# Altium schematic symbol library Componentes_base.SchLib: 431 symbols (part 7 of 12)
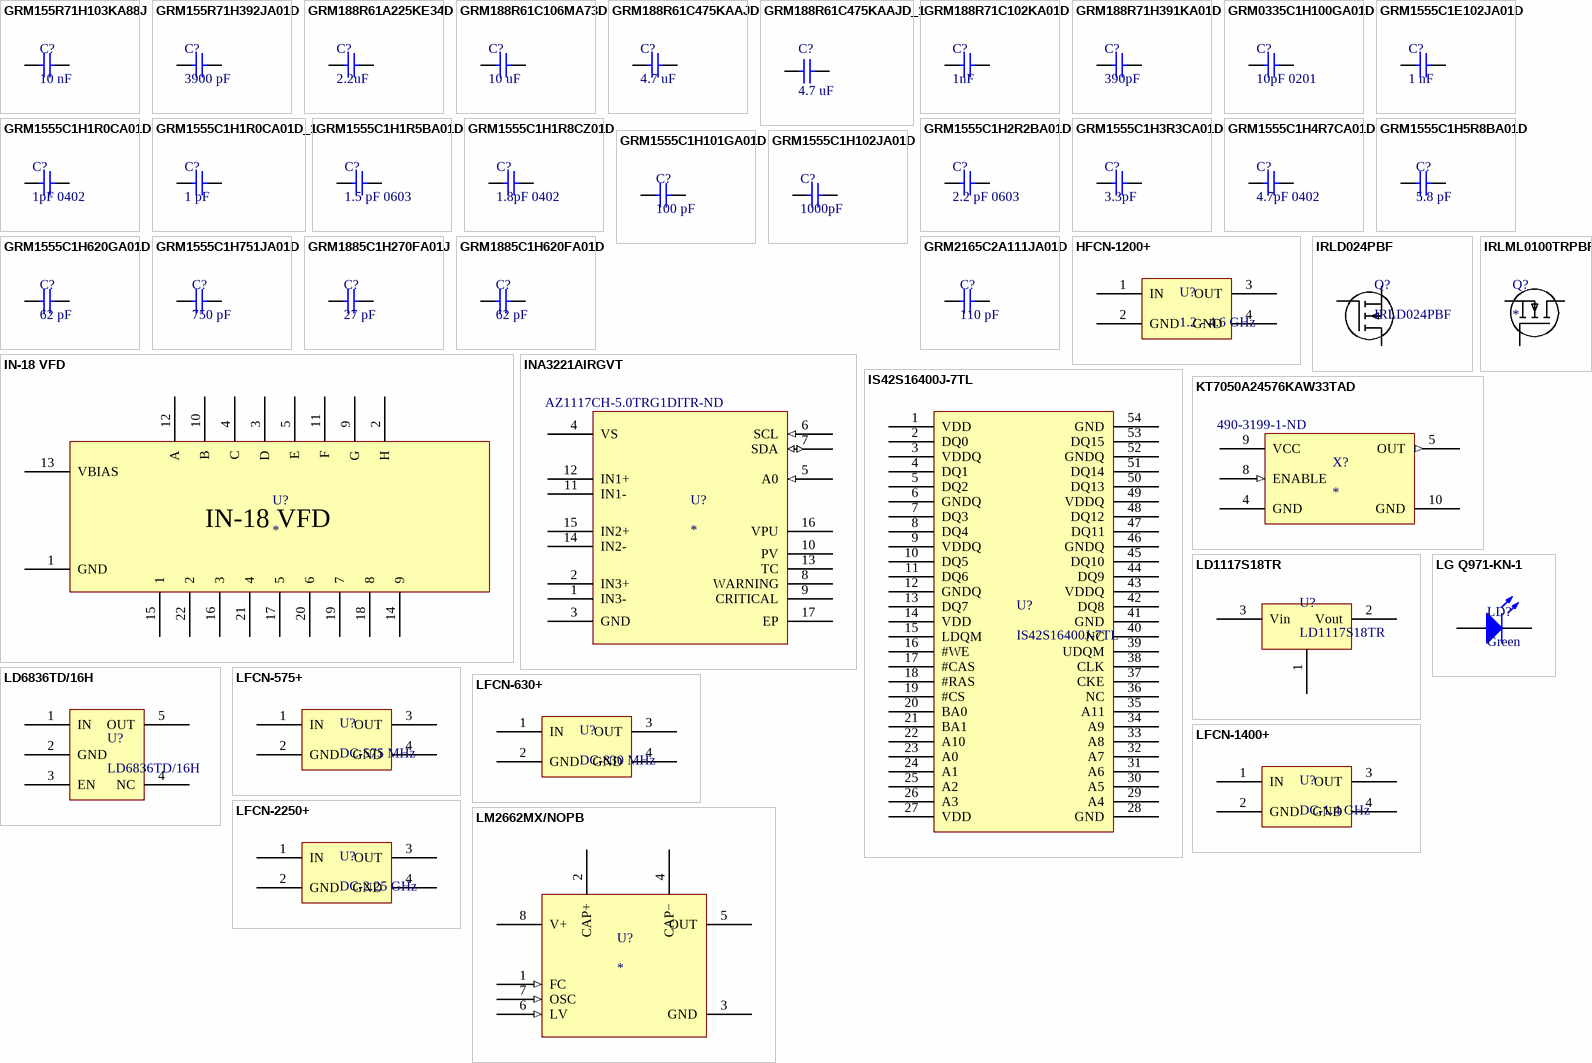
[diagram p20: symbols GRM155R71H103KA88J to LM2662MX/NOPB]

## GRM1555C1H751JA01D
designator C?, comment 750 pF
CAP CER 750PF 50V 5% NP0 0402; Manufacturer: Murata Electronics; Manufacturer Part Number: GRM1555C1H751JA01D; Type: General Purpose MLCC; Case Height: 0.5 mm; Case Length: 1 mm; Dielectric: C0G (NP0); Temperature Coefficient/Code: +/- 30 PPM / C; Temperature Coefficient: C0G, NP0; Supplier 1: Mouser; Supplier Part Number 1: 81-GRM1555C1H751JA1D; RoHS: RoHS Compliant; Category: Multilayer Ceramic Capacitors MLCC - SMD/SMT; Stock 1: 55516; Pricing 1: 1=0.104, 10=0.069, 100=0.028, 1000=0.019, 2500=0.016, 10000=0.014, 20000=0.013, 50000=0.011, 100000=0.009 (EUR); Capacitance: 750 pF; Operating Temperature Range: - 55 C to + 125 C; Package/Case: 0402 (1005 metric); Packaging: Reel; Product: General Type MLCCs; Series: GRM; Termination Style: SMD/SMT; Tolerance: 5 %; Voltage Rating DC: 50 V; Brand: Murata Electronics; Case Code - in: 0402; Case Code - mm: 1005; Case Width: 0.5 mm; Maximum Operating Temperature: + 125 C; Minimum Operating Temperature: - 55 C; Standard Pack Qty: 10000; RoHS - Mouser: Y; Minimum Order Quantity: 1; Reeling: True; ComponentLink1URL: http://www.mouser.com/ds/2/281/product-234285.pdf; ComponentLink1Description: http://www.mouser.com/ds/2/281/product-234285.pdf; Voltage - Rated: 50V; Mounting Type: Surface Mount, MLCC; Operating Temperature: -55°C ~ 125°C; Applications: General Purpose; Ratings: -; Package / Case: 0402 (1005 Metric); Size / Dimension: 0.039" L x 0.020" W (1.00mm x 0.50mm); Height - Seated (Max): -; Thickness (Max): 0.022" (0.55mm); Lead Spacing: -; Features: -; Lead Style: -; ComponentLink2URL: http://www.murata.com/~/media/webrenewal/support/library/catalog/products/capacitor/mlcc/c02e.ashx; ComponentLink2Description: http://www.murata.com/~/media/webrenewal/support/library/catalog/products/capacitor/mlcc/c02e.ashx; Part Status: Active; Failure Rate: -; ComponentLink3URL: http://search.murata.co.jp/Ceramy/image/img/A01X/G101/ENG/GRM155R61A475MEAA-01.pdf; ComponentLink3Description: http://search.murata.co.jp/Ceramy/image/img/A01X/G101/ENG/GRM155R61A475MEAA-01.pdf
footprint CAPC1005X05L (Chip Capacitor, 2-Leads, Body 1,00x0,50mm, IPC High Density)
pins: 1, 2

## GRM1885C1H270FA01J
designator C?, comment 27 pF
Multilayer Ceramic Capacitors MLCC - SMD/SMT 0603 27pF 50volts C0G 1%; Manufacturer: Murata Electronics; Manufacturer Part Number: GRM1885C1H270FA01J; Type: General Purpose MLCC; Voltage Rating DC: 50 V; Dielectric: C0G (NP0); Voltage - Rated: 50V; Temperature Coefficient: C0G, NP0; Supplier 1: Mouser; RoHS: RoHS Compliant; Category: Multilayer Ceramic Capacitors MLCC - SMD/SMT; Stock 1: 23177; Pricing 1: 1=0.136, 10=0.058, 100=0.034, 1000=0.028, 2500=0.021, 10000=0.020, 20000=0.018, 50000=0.017, 100000=0.014 (EUR); Capacitance: 27 pF; Height: 0.8 mm; Length: 1.6 mm; Package/Case: 0603 (1608 metric); Packaging: Reel; Product: General Type MLCCs; Series: GRM; Termination Style: SMD/SMT; Tolerance: 1 %; Width: 0.8 mm; Brand: Murata Electronics; Case Code - in: 0603; Case Code - mm: 1608; Maximum Operating Temperature: + 125 C; Minimum Operating Temperature: - 55 C; Product Category: Low & Medium Capacitance SMD Ceramic Chip Capacitors; Standard Pack Qty: 10000; RoHS - Mouser: Y; Minimum Order Quantity: 1; Reeling: True; ComponentLink1URL: http://www.mouser.com/ds/2/281/c02e-2905.pdf; ComponentLink1Description: http://www.mouser.com/ds/2/281/c02e-2905.pdf; Supplier 2: Digi-Key; Stock 2: 29728; Pricing 2: 1=0.14, 10=0.099, 50=0.057, 100=0.047, 250=0.0396, 500=0.03316, 1000=0.02723, 5000=0.02302 (EUR); Mounting Type: Surface Mount, MLCC; Operating Temperature: -55°C ~ 125°C; Applications: General Purpose; Ratings: -; Package / Case: 0603 (1608 Metric); Size / Dimension: 0.063" L x 0.031" W (1.60mm x 0.80mm); Height - Seated (Max): -; Thickness (Max): 0.035" (0.90mm); Lead Spacing: -; Features: -; Lead Style: -; ComponentLink2URL: http://www.murata.com/~/media/webrenewal/support/library/catalog/products/capacitor/mlcc/c02e.ashx; ComponentLink2Description: http://www.murata.com/~/media/webrenewal/support/library/catalog/products/capacitor/mlcc/c02e.ashx; Supplier Part Number 1: 81-GRM185C1H270FA01J; Supplier Part Number 2: 490-10712-1-ND
footprint CAPC1608X10L (Chip Capacitor, 2-Leads, Body 1,60x0,80mm, IPC High Density)
pins: 1, 2

## GRM1885C1H620FA01D
designator C?, comment 62 pF
Multilayer Ceramic Capacitors MLCC - SMD/SMT 0603 62pF 50volts C0G 1%; Manufacturer: Murata Electronics; Manufacturer Part Number: GRM1885C1H620FA01D; Type: General Purpose MLCC; Voltage Rating DC: 50 V; Dielectric: C0G (NP0); Supplier 1: Mouser; RoHS: RoHS Compliant; Category: Multilayer Ceramic Capacitors MLCC - SMD/SMT; Stock 1: 13135; Pricing 1: 1=0.118, 10=0.049, 100=0.029, 1000=0.024, 4000=0.017, 8000=0.016, 24000=0.015, 48000=0.014, 100000=0.012 (EUR); Capacitance: 62 pF; Height: 0.8 mm; Length: 1.6 mm; Package/Case: 0603 (1608 metric); Packaging: Reel; Product: General Type MLCCs; Series: GRM; Termination Style: SMD/SMT; Tolerance: 1 %; Width: 0.8 mm; Brand: Murata Electronics; Case Code - in: 0603; Case Code - mm: 1608; Maximum Operating Temperature: + 125 C; Minimum Operating Temperature: - 55 C; Product Category: Low & Medium Capacitance SMD Ceramic Chip Capacitors; Standard Pack Qty: 4000; RoHS - Mouser: Y; Minimum Order Quantity: 1; Reeling: True; ComponentLink1URL: http://www.mouser.com/ds/2/281/c02e-2905.pdf; ComponentLink1Description: http://www.mouser.com/ds/2/281/c02e-2905.pdf; Supplier Part Number 1: 81-GRM185C1H620FA01D
footprint CAPC1608X10L (Chip Capacitor, 2-Leads, Body 1,60x0,80mm, IPC High Density)
pins: 1, 2

## GRM2165C2A111JA01D
designator C?, comment 110 pF
CAP CER 110PF 100V NP0 0805; Manufacturer: Murata Electronics North America; Manufacturer Part Number: GRM2165C2A111JA01D; Tolerance: ±5%; Temperature Coefficient: C0G, NP0; Type: General Purpose MLCC; Brand: Murata Electronics; Dielectric: C0G (NP0); Supplier 1: Digi-Key; RoHS: RoHS Compliant; Category: Capacitors; Stock 1: 9467; Pricing 1: 1=0.15, 10=0.104, 50=0.06, 100=0.0496, 250=0.04176, 500=0.03496, 1000=0.0287 (EUR); Packaging: Cut Tape (CT); Capacitance: 110pF; Voltage - Rated: 100V; Mounting Type: Surface Mount, MLCC; Operating Temperature: -55°C ~ 125°C; Applications: General Purpose; Ratings: -; Package / Case: 0805 (2012 Metric); Size / Dimension: 0.079" L x 0.049" W (2.00mm x 1.25mm); Height - Seated (Max): -; Thickness (Max): 0.028" (0.70mm); Lead Spacing: -; Features: -; Lead Style: -; ComponentLink1URL: http://www.murata.com/~/media/webrenewal/support/library/catalog/products/capacitor/mlcc/c02e.ashx; ComponentLink1Description: http://www.murata.com/~/media/webrenewal/support/library/catalog/products/capacitor/mlcc/c02e.ashx; Supplier 2: Mouser; Stock 2: 10454; Pricing 2: 1=0.154, 10=0.106, 100=0.042, 1000=0.029, 4000=0.023, 8000=0.021, 24000=0.019, 48000=0.015, 100000=0.014 (EUR); Height: 0.6 mm; Length: 2 mm; Package/Case: 0805 (2012 metric); Product: General Type MLCCs; Series: GRM; Termination Style: SMD/SMT; Voltage Rating DC: 100 V; Width: 1.25 mm; Case Code - in: 0805; Case Code - mm: 2012; Maximum Operating Temperature: + 125 C; Minimum Operating Temperature: - 55 C; Standard Pack Qty: 4000; RoHS - Mouser: Y; Minimum Order Quantity: 1; Reeling: True; ComponentLink2URL: http://www.mouser.com/ds/2/281/c02e-2905.pdf; ComponentLink2Description: http://www.mouser.com/ds/2/281/c02e-2905.pdf; Supplier Part Number 1: 490-1600-1-ND; Supplier Part Number 2: 81-GRM2165C2A111JA1D
footprint CAPC2012X08L (Chip Capacitor, 2-Leads, Body 2,00x1,25mm, IPC High Density)
pins: 1, 2

## HFCN-1200+
designator U?, comment 1.2 - 4.6 GHz
Minicircuits integrated highpass filter 1220-4600 MHz; Manufacturer Part Number: HFCN-1200+; Manufacturer: Minicircuits; Pricing 1: 20=1.89, 50=1.61 (EUR); Supplier 1: Minicircuits; Supplier Part Number 1: HFCN-1200+
footprint FV1206 (Minicircuits Filter 2-Leads, Body 3,20x1,60mm, IPC High Density)
pins: 1 IN, 2 GND (power), 3 OUT, 4 GND (power)

## IN-18 VFD
designator U?
footprint IV-18 VFD
pins: 1 GND, 2 H, 3 D, 4 C, 5 E, 9 G, 10 B, 11 F, 12 A, 13 VBIAS, 14 9, 15 1, 16 3, 17 5, 18 8, 19 7, 20 6, 21 4, 22 2

## INA3221AIRGVT
designator U?  Supplier Part Number 3: AZ1117CH-5.0TRG1DITR-ND
Current Sense Amplifiers Triple Channel Shunt & Bus Vltg Monitor; Manufacturer: Texas Instruments; Manufacturer Part Number: INA3221AIRGVT; Topology: Current Shunt Feedback; CMRR - Common Mode Rejection Ratio: 110 dB; Gain Error: 0.1 %; Gain V/V: 1 V/V; GBP - Gain Bandwidth Product: 7 kHz; Single Supply Voltage: 2.7 V to 5.5 V; Supply Current per Channel: 350 uA; Supply Voltage - Max: 5.5 V; Supply Voltage - Min: 2.7 V; Vcm - Common Mode Voltage: 0 V to 26 V; Vos - Input Offset Voltage: 80 uV; Function: Current/Voltage Monitor; Sensing Method: High-Side; Accuracy: ±0.1%; Voltage - Input: 0 V ~ 26 V; Regulator Topology: Positive Fixed; Voltage - Output: 5V; Voltage - Dropout (Typical): 1.2V @ 800mA; Number of Regulators: 1; Current - Limit (Min): 1A; Supplier 1: Mouser; Supplier Part Number 1: 595-INA3221AIRGVT; RoHS: RoHS Compliant; Category: Current Sense Amplifiers; Stock 1: 849; Pricing 1: 1=4.69, 10=4.18, 25=3.76, 50=3.60, 100=3.43, 250=3.10, 500=2.78, 750=2.51, 1000=2.24 (EUR); Amplifier Type: Current Sense; Package/Case: VQFN-16; Packaging: Reel; Product: Operational Amplifiers; Series: INA3221; Brand: Texas Instruments; Mounting Style: SMD/SMT; Maximum Operating Temperature: + 125 C; Minimum Operating Temperature: - 40 C; Product Category: Amplifiers - Current Sensing; Standard Pack Qty: 250; RoHS - Mouser: Y; Minimum Order Quantity: 1; Reeling: True; ComponentLink1URL: http://www.mouser.com/ds/2/405/ina3221-452933.pdf; ComponentLink1Description: http://www.mouser.com/ds/2/405/ina3221-452933.pdf; Supplier 2: Digi-Key; Supplier Part Number 2: 296-30459-1-ND; Stock 2: 1056; Pricing 2: 1=4.9, 10=4.392, 25=3.95, 100=3.5925 (EUR); Current - Output: -; Operating Temperature: -40°C ~ 125°C; Mounting Type: Surface Mount; Package / Case: 16-VQFN Exposed Pad; Supplier Device Package: 16-VQFN (4x4); ComponentLink2URL: http://www.ti.com/lit/ds/symlink/ina3221.pdf; ComponentLink2Description: http://www.ti.com/lit/ds/symlink/ina3221.pdf; Supplier 3: Digi-Key; Stock 3: 12000; Pricing 3: 4000=0.07826, 8000=0.07391, 12000=0.06739, 28000=0.06304, 100000=0.05565 (EUR); Part Status: Active; ComponentLink3URL: http://www.diodes.com/_files/datasheets/AZ1117C.pdf; ComponentLink3Description: http://www.diodes.com/_files/datasheets/AZ1117C.pdf
footprint QFN65P400X400X100_HS-17N (QFN, 16-Leads, Body 4,00x4,00mm, Pitch 0,65mm, Thermal Pad 2,10x2,10mm, IPC Medium Density)
pins: 1 IN3-, 2 IN3+, 3 GND (power), 4 VS (power), 5 A0 (in), 6 SCL (in), 7 SDA (io), 8 WARNING (oc), 9 CRITICAL (oc), 10 PV (oc), 11 IN1-, 12 IN1+, 13 TC (oc), 14 IN2-, 15 IN2+, 16 VPU, 17 EP (power)

## IRLD024PBF
designator Q?
VISHAY         IRLD024PBF.             MOSFET Transistor, N Channel, 2.5 A, 60 V, 100 mohm, 5 V, 2 V; Continuous Drain Current Id: 2.5A; Drain Source Voltage Vds: 60V; On Resistance Rds(on): 0.1ohm; Rds(on) Test Voltage Vgs: 5V; Threshold Voltage Vgs: 2V; Power Dissipation Pd: 1W; Transistor Case Style: DIP; No. of Pins: 4Pins; SVHC: To Be Advised; Supplier 1: Digi-Key; Manufacturer: Vishay; Manufacturer Part Number: IRLD024PBF; Stock 1: 1224; Pricing 1: 1=1.23, 10=1.087, 100=0.8594, 500=0.6665, 1000=0.5262 (USD); Transistor Polarity: N Channel; Operating Temperature Max: 175°C; MSL: -; Supplier Part Number 1: IRLD024PBF-ND
footprint IRLD024PBF
pins: 1 D, 2 G, 3 S

## IRLML0100TRPBF
designator Q?
MOSFET N-CH 100V 1.6A SOT-23-3; Manufacturer: Infineon Technologies; Manufacturer Part Number: IRLML0100TRPBF; FET Type: MOSFET N-Channel, Metal Oxide; FET Feature: Standard; Current - Continuous Drain (Id) @ 25°C: 1.6A (Ta); Rds On (Max) @ Id, Vgs: 220 mOhm @ 1.6A, 10V; Vgs(th) (Max) @ Id: 2.5V @ 25µA; Gate Charge (Qg) @ Vgs: 2.5nC @ 4.5V; Input Capacitance (Ciss) @ Vds: 290pF @ 25V; Power - Max: 1.3W; Supplier 1: Digi-Key; RoHS: RoHS Compliant; Category: Discrete Semiconductor Products; Stock 1: 14880; Pricing 1: 1=0.48, 10=0.392, 100=0.2674, 500=0.2005, 1000=0.15037 (EUR); Packaging: Cut Tape (CT); Part Status: Active; Drain to Source Voltage (Vdss): 100V; Operating Temperature: -55°C ~ 150°C (TJ); Mounting Type: Surface Mount; Package / Case: TO-236-3, SC-59, SOT-23-3; Supplier Device Package: Micro3™/SOT-23; ComponentLink1URL: http://www.irf.com/product-info/datasheets/data/irLML0100pbf.pdf; ComponentLink1Description: http://www.irf.com/product-info/datasheets/data/irLML0100pbf.pdf; Supplier Part Number 1: IRLML0100TRPBFCT-ND
footprint SOT23-GDS
pins: D, G, S

## IS42S16400J-7TL
designator U?
IC SDRAM 64MBIT 143MHZ 54TSOP; Manufacturer: ISSI, Integrated Silicon Solution Inc; Memory Format: DRAM; Memory Type: Volatile; Memory Size: 64Mb (4M x 16); Interface: Parallel; Voltage - Supply: 3 V ~ 3.6 V; Supplier 1: Digi-Key; Manufacturer Part Number: IS42S16400J-7TL; RoHS: RoHS Compliant; Category: Integrated Circuits (ICs); Stock 1: 6588; Pricing 1: 1=1.64 (EUR); Packaging: Tray; Part Status: Active; Speed: 143MHz; Operating Temperature: 0°C ~ 70°C (TA); Package / Case: 54-TSOP (0.400", 10.16mm Width); Supplier Device Package: 54-TSOP II; ComponentLink1URL: http://www.issi.com/WW/pdf/42-45S16400J.pdf; ComponentLink1Description: http://www.issi.com/WW/pdf/42-45S16400J.pdf; Supplier Part Number 1: 706-1133-ND
footprint TSOP2-54
pins: 1 VDD, 2 DQ0, 3 VDDQ, 4 DQ1, 5 DQ2, 6 GNDQ, 7 DQ3, 8 DQ4, 9 VDDQ, 10 DQ5, 11 DQ6, 12 GNDQ, 13 DQ7, 14 VDD, 15 LDQM, 16 #WE, 17 #CAS, 18 #RAS, 19 #CS, 20 BA0, 21 BA1, 22 A10, 23 A0, 24 A1, 25 A2, 26 A3, 27 VDD, 28 GND, 29 A4, 30 A5, 31 A6, 32 A7, 33 A8, 34 A9, 35 A11, 36 NC, 37 CKE, 38 CLK, 39 UDQM, 40 NC, 41 GND, 42 DQ8, 43 VDDQ, 44 DQ9, 45 DQ10, 46 GNDQ, 47 DQ11, 48 DQ12, 49 VDDQ, 50 DQ13, 51 DQ14, 52 GNDQ, 53 DQ15, 54 GND

## KT7050A24576KAW33TAD
designator X?  Supplier Part Number 3: 490-3199-1-ND
OSC TCXO 24.576MHZ CMOS SMD; Manufacturer: AVX Corp/Kyocera Corp; Manufacturer Part Number: KT7050A24576KAW33TAD; Function: Tri-State (Output Enable); Voltage - Supply: 3.3V; Frequency Stability: ±0.28ppm; Current - Supply (Max): 5mA; Load Capacitance: 15 pF; Supply Voltage: 3.3 V; Brand: AVX; Tolerance: ±0.25pF; Voltage - Rated: 50V; Temperature Coefficient: C0G, NP0; Supplier 1: Digi-Key; Supplier Part Number 1: 1253-1023-1-ND; RoHS: RoHS Compliant; Category: Crystals and Oscillators; Stock 1: 1911; Pricing 1: 1=20.85, 10=19.402, 50=19.0056, 100=18.4777, 500=18.08174 (EUR); Packaging: Cut Tape (CT); Type: TCXO; Frequency: 24.576MHz; Output: CMOS; Operating Temperature: -40°C ~ 85°C; Ratings: -; Mounting Type: Surface Mount; Size / Dimension: 0.276" L x 0.197" W (7.00mm x 5.00mm); Height: 0.067" (1.70mm); Package / Case: 8-SMD, No Lead (QFN, LCC); Current - Supply (Disable) (Max): -; ComponentLink1URL: http://www.kyocera-crystal.jp/eng/wp-content/uploads/2014/09/kt7050_e.pdf; ComponentLink1Description: http://www.kyocera-crystal.jp/eng/wp-content/uploads/2014/09/kt7050_e.pdf; Supplier 2: Mouser; Supplier Part Number 2: 581-KT7050A24KAW33T; Stock 2: 111; Pricing 2: 1=38.93, 10=35.68, 100=24.00, 500=20.76, 1000=18.17 (EUR); Dimensions: 5 mm W x 7 mm L x 1.7 mm H; Package/Case: 7 mm x 5 mm; Product: TCXO; Series: KT7050; Termination Style: SMD/SMT; Maximum Operating Temperature: + 85 C; Minimum Operating Temperature: - 40 C; Output Format: CMOS; Standard Pack Qty: 1000; RoHS - Mouser: Y; Minimum Order Quantity: 1; Reeling: True; ComponentLink2URL: http://www.mouser.com/ds/2/40/kt7050_e-5259.pdf; ComponentLink2Description: http://www.mouser.com/ds/2/40/kt7050_e-5259.pdf; Supplier 3: Digi-Key; Stock 3: 713278; Pricing 3: 1=0.11, 10=0.021, 100=0.0091, 500=0.00652, 1000=0.00513, 2500=0.00466, 5000=0.00429 (EUR); Part Status: Active; Features: -; Applications: General Purpose; Height - Seated (Max): -; Thickness (Max): 0.022" (0.55mm); Lead Spacing: -; Lead Style: -; ComponentLink3URL: http://www.murata.com/~/media/webrenewal/support/library/catalog/products/capacitor/mlcc/c02e.ashx; ComponentLink3Description: http://www.murata.com/~/media/webrenewal/support/library/catalog/products/capacitor/mlcc/c02e.ashx
footprint KT7050A (Kyocera/AVX stratum 3 TCXO 10 leads 7x5)
pins: 4 GND (power), 5 OUT (out), 8 ENABLE (in), 9 VCC (power), 10 GND (power)

## LD1117S18TR
designator U?
IC REG LDO 1.8V 0.8A SOT223; Manufacturer: STMicroelectronics; Output Configuration: Positive; Output Type: Fixed; Voltage - Input (Max): 15V; Voltage Dropout (Max): 1.2V @ 800mA; Current - Output: 800mA; Current - Supply: 10mA; PSRR: 75dB (120Hz); Protection Features: Over Current, Over Temperature; Supplier 1: Digi-Key; Manufacturer Part Number: LD1117S18TR; RoHS: RoHS Compliant; Category: Integrated Circuits (ICs); Stock 1: 2476; Pricing 1: 1=0.42, 10=0.357, 100=0.2669, 500=0.20966, 1000=0.162 (EUR); Packaging: Cut Tape (CT); Part Status: Active; Voltage - Output (Min/Fixed): 1.8V; Voltage - Output (Max): -; Control Features: -; Operating Temperature: 0°C ~ 125°C; Mounting Type: Surface Mount; Package / Case: TO-261-4, TO-261AA; Supplier Device Package: SOT-223; ComponentLink1URL: http://www.st.com/content/ccc/resource/technical/document/datasheet/99/3b/7d/91/91/51/4b/be/CD00000544.pdf/files/CD00000544.pdf/jcr:content/translations/en.CD00000544.pdf; ComponentLink1Description: http://www.st.com/content/ccc/resource/technical/document/datasheet/99/3b/7d/91/91/51/4b/be/CD00000544.pdf/files/CD00000544.pdf/jcr:content/translations/en.CD00000544.pdf; Supplier Part Number 1: 497-7308-1-ND
footprint SOT223-123
pins: 1 GND, 2 Vout, 3 Vin

## LD6836TD/16H
designator U?
NEXPERIA - LD6836TD/16H - LDO, 5,5V, 0.09VDO, 0,3A, 1,6V, 5SOT753; Tipo de Salida: Fija; Tensión de Entrada Mín.: 2.3; Tensión de Entrada Máx.: 5.5; Tensión Nominal de Salida Fija: 1.6; Corriente de Salida: 300; Tensión de Caída Vdo: 100; Diseño del Regulador LDO: SOT-753; Núm. de Contactos Macho: 5; Temperatura de Trabajo Mín.: -40; Temperatura de Trabajo Máx.: 85; Encapsulado: Individual; Rango de Producto: 1.6V 300; Nivel de Sensibilidad a la Humedad (MSL): MSL 1 - Ilimitado; Sustancia Extremadamente Preocupante (SVHC): No SVHC (17-Dec-2015); Memory Format: DRAM; Memory Type: Volatile; Memory Size: 64Mb (4M x 16); Speed: 143MHz; Interface: Parallel; Voltage - Supply: 3 V ~ 3.6 V; Supplier 1: Farnell; Manufacturer: NEXPERIA; Manufacturer Part Number: LD6836TD/16H; RoHS: YES; Stock 1: 57; Pricing 1: 1=0,338, 40=0,273, 100=0,223, 300=0,183, 1000=0,16, 3000=0,133, 10000=0,125, 25000=0,115 (EUR); Tensión Mínima de Salida Ajustable: -; Tensión Máxima de Salida Ajustable: -; Estándar de Certificación para Automoción: -; Tensión Nominal de Salida: 1.6; Voltaje de Entrada, Primario: 5.5; ComponentLink1URL: http://www.farnell.com/datasheets/1760785.pdf; ComponentLink1Description: http://www.farnell.com/datasheets/1760785.pdf; ComponentLink2URL: http://www.farnell.com/datasheets/1697991.pdf; ComponentLink2Description: http://www.farnell.com/datasheets/1697991.pdf; ComponentLink3URL: http://www.farnell.com/cad/1721740.zip; ComponentLink3Description: http://www.farnell.com/cad/1721740.zip; Supplier Part Number 1: 2308313RL; Category: Integrated Circuits (ICs); Packaging: Tray; Part Status: Active; Operating Temperature: 0°C ~ 70°C (TA); Package / Case: 54-TSOP (0.400", 10.16mm Width); Supplier Device Package: 54-TSOP II; ComponentLink4URL: http://www.issi.com/WW/pdf/42-45S16400J.pdf; ComponentLink4Description: http://www.issi.com/WW/pdf/42-45S16400J.pdf
footprint SOT-753
pins: 1 IN, 2 GND, 3 EN, 4 NC, 5 OUT

## LFCN-575+
designator U?, comment DC-575 MHz
Minicircuits integrated lowpass filter DC-575 MHz; Manufacturer Part Number: LFCN-575+; Manufacturer: Minicircuits; Pricing 1: 20=2.84, 50=2.56 (EUR); Supplier 1: Minicircuits; Supplier Part Number 1: LFCN-575+
footprint FV1206 (Minicircuits Filter 2-Leads, Body 3,20x1,60mm, IPC High Density)
pins: 1 IN, 2 GND (power), 3 OUT, 4 GND (power)

## LFCN-630+
designator U?, comment DC-830 MHz
Minicircuits integrated lowpass filter DC-830 MHz; Manufacturer Part Number: LFCN-630+; Manufacturer: Minicircuits; Pricing 1: 20=2.84, 50=2.56 (EUR); Supplier 1: Minicircuits; Supplier Part Number 1: LFCN-630+
footprint FV1206 (Minicircuits Filter 2-Leads, Body 3,20x1,60mm, IPC High Density)
pins: 1 IN, 2 GND (power), 3 OUT, 4 GND (power)

## LFCN-1400+
designator U?, comment DC-1.4 GHz
Minicircuits integrated lowpass filter DC-1400 MHz; Manufacturer Part Number: LFCN-1400+; Manufacturer: Minicircuits; Pricing 1: 20=2.84, 50=2.56 (EUR); Supplier 1: Minicircuits; Supplier Part Number 1: LFCN-1400+
footprint FV1206 (Minicircuits Filter 2-Leads, Body 3,20x1,60mm, IPC High Density)
pins: 1 IN, 2 GND (power), 3 OUT, 4 GND (power)

## LFCN-2250+
designator U?, comment DC-2.25 GHz
Minicircuits integrated lowpass filter DC-2250MHz; Manufacturer Part Number: LFCN-2250+; Manufacturer: Minicircuits; Pricing 1: 20=2.84, 50=2.56 (EUR); Supplier 1: Minicircuits; Supplier Part Number 1: LFCN-2250+
footprint FV1206 (Minicircuits Filter 2-Leads, Body 3,20x1,60mm, IPC High Density)
pins: 1 IN, 2 GND (power), 3 OUT, 4 GND (power)

## LG Q971-KN-1
designator LD?, comment Green
LED CHIPLED 570NM GREEN 0603 SMD; Manufacturer: OSRAM Opto Semiconductors; Manufacturer Part Number: LG Q971-KN-1; Forward Current: 20 mA; Forward Voltage: 2.2 V; LED Size: 1.6 mm x 0.8 mm x 0.3 mm; Luminous Intensity: 10 mcd; Viewing Angle: 160 deg; Supplier 1: Mouser; Supplier Part Number 1: 720-LGQ971-KN-1; RoHS: RoHS Compliant; Category: Standard LEDs - SMD; Stock 1: 101520; Pricing 1: 1=0.087, 10=0.059, 25=0.053, 100=0.047, 250=0.041, 500=0.037, 1000=0.035, 2500=0.031, 4000=0.029 (EUR); Illumination Colour: Green; Package/Case: 0603; Packaging: Reel; Series: CHIPLED 0603; Brand: OSRAM Opto Semiconductors; Maximum Operating Temperature: + 85 C; Minimum Operating Temperature: - 40 C; Product Category: Standard LED - Surface Mount; Standard Pack Qty: 16000; Wavelength/Colour Temperature: 570 nm; RoHS - Mouser: Y; Minimum Order Quantity: 1; Reeling: True; ComponentLink1URL: http://www.mouser.com/ds/2/311/LG Q971 - CHIPLED 0603-473269.pdf; ComponentLink1Description: http://www.mouser.com/ds/2/311/LG Q971 - CHIPLED 0603-473269.pdf
footprint LED1608X08L (LED, 2-Leads, Body 1,60x0,80mm, IPC High Density)
pins: 1 A, 2 K

## LM2662MX/NOPB
designator U?
IC REG SWTCHD CAP INV 0.2A 8SOIC; Manufacturer: Texas Instruments; Manufacturer Part Number: LM2662MX/NOPB; Function: Ratiometric; Output Configuration: Positive or Negative; Topology: Charge Pump; Output Type: Fixed; Number of Outputs: 1; Voltage - Input (Min): 1.5V; Voltage - Input (Max): 5.5V; Voltage - Output (Min/Fixed): -Vin, 2Vin, Vin/2; Current - Output: 200mA; Frequency - Switching: 10kHz, 75kHz; Synchronous Rectifier: No; Input Voltage: 1.5 V to 5.5 V; Input Voltage MAX: 5.5 V; Output Current: 200 mA; Output Voltage: - 1.5 V to - 5.5 V; Switching Frequency: 150 kHz; Input Voltage MIN: 1.5 V; Operating Supply Current: 16 mA; Supplier 1: Digi-Key; RoHS: RoHS Compliant; Category: Integrated Circuits (ICs); Stock 1: 12952; Pricing 1: 1=1.92, 10=1.73, 25=1.4984, 50=1.4094, 100=1.3915, 250=1.23988, 500=1.05256, 750=0.94552, 1000=0.75285 (EUR); Packaging: Cut Tape (CT); Voltage - Output (Max): -; Operating Temperature: -40°C ~ 85°C (TA); Mounting Type: Surface Mount; Package / Case: 8-SOIC (0.154", 3.90mm Width); Supplier Device Package: 8-SOIC; ComponentLink1URL: http://www.ti.com/lit/ds/symlink/lm2662.pdf; ComponentLink1Description: http://www.ti.com/lit/ds/symlink/lm2662.pdf; Supplier 2: Mouser; Stock 2: 2584; Pricing 2: 1=1.95, 10=1.76, 25=1.52, 50=1.43, 100=1.41, 250=1.26, 500=1.07, 750=0.959, 1000=0.781, 2500=0.781 (EUR); Operating Temperature Range: - 40 C to + 85 C; Package/Case: SOIC-Narrow-8; Series: LM2662; Type: Inverting, Step Up, Step Down; Width: 3.9 mm; Brand: Texas Instruments; Mounting Style: SMD/SMT; Shutdown: Shutdown; Maximum Operating Temperature: + 85 C; Minimum Operating Temperature: - 40 C; Standard Pack Qty: 2500; Supply Voltage - Min: 1.5 V; RoHS - Mouser: Y; Minimum Order Quantity: 1; Reeling: True; ComponentLink2URL: http://www.mouser.com/ds/2/405/lm2662-443660.pdf; ComponentLink2Description: http://www.mouser.com/ds/2/405/lm2662-443660.pdf; Supplier Part Number 1: LM2662MX/NOPBCT-ND; Supplier Part Number 2: 926-LM2662MX/NOPB
footprint SOIC127P600X175-8L R-PDSO-G8 (SOIC, 8-Leads, Body 4,90x3,90mm, Pitch 1,27mm, IPC High Density)
pins: 1 FC (in), 2 CAP+ (power), 3 GND (power), 4 CAP− (power), 5 OUT (power), 6 LV (in), 7 OSC (in), 8 V+ (power)

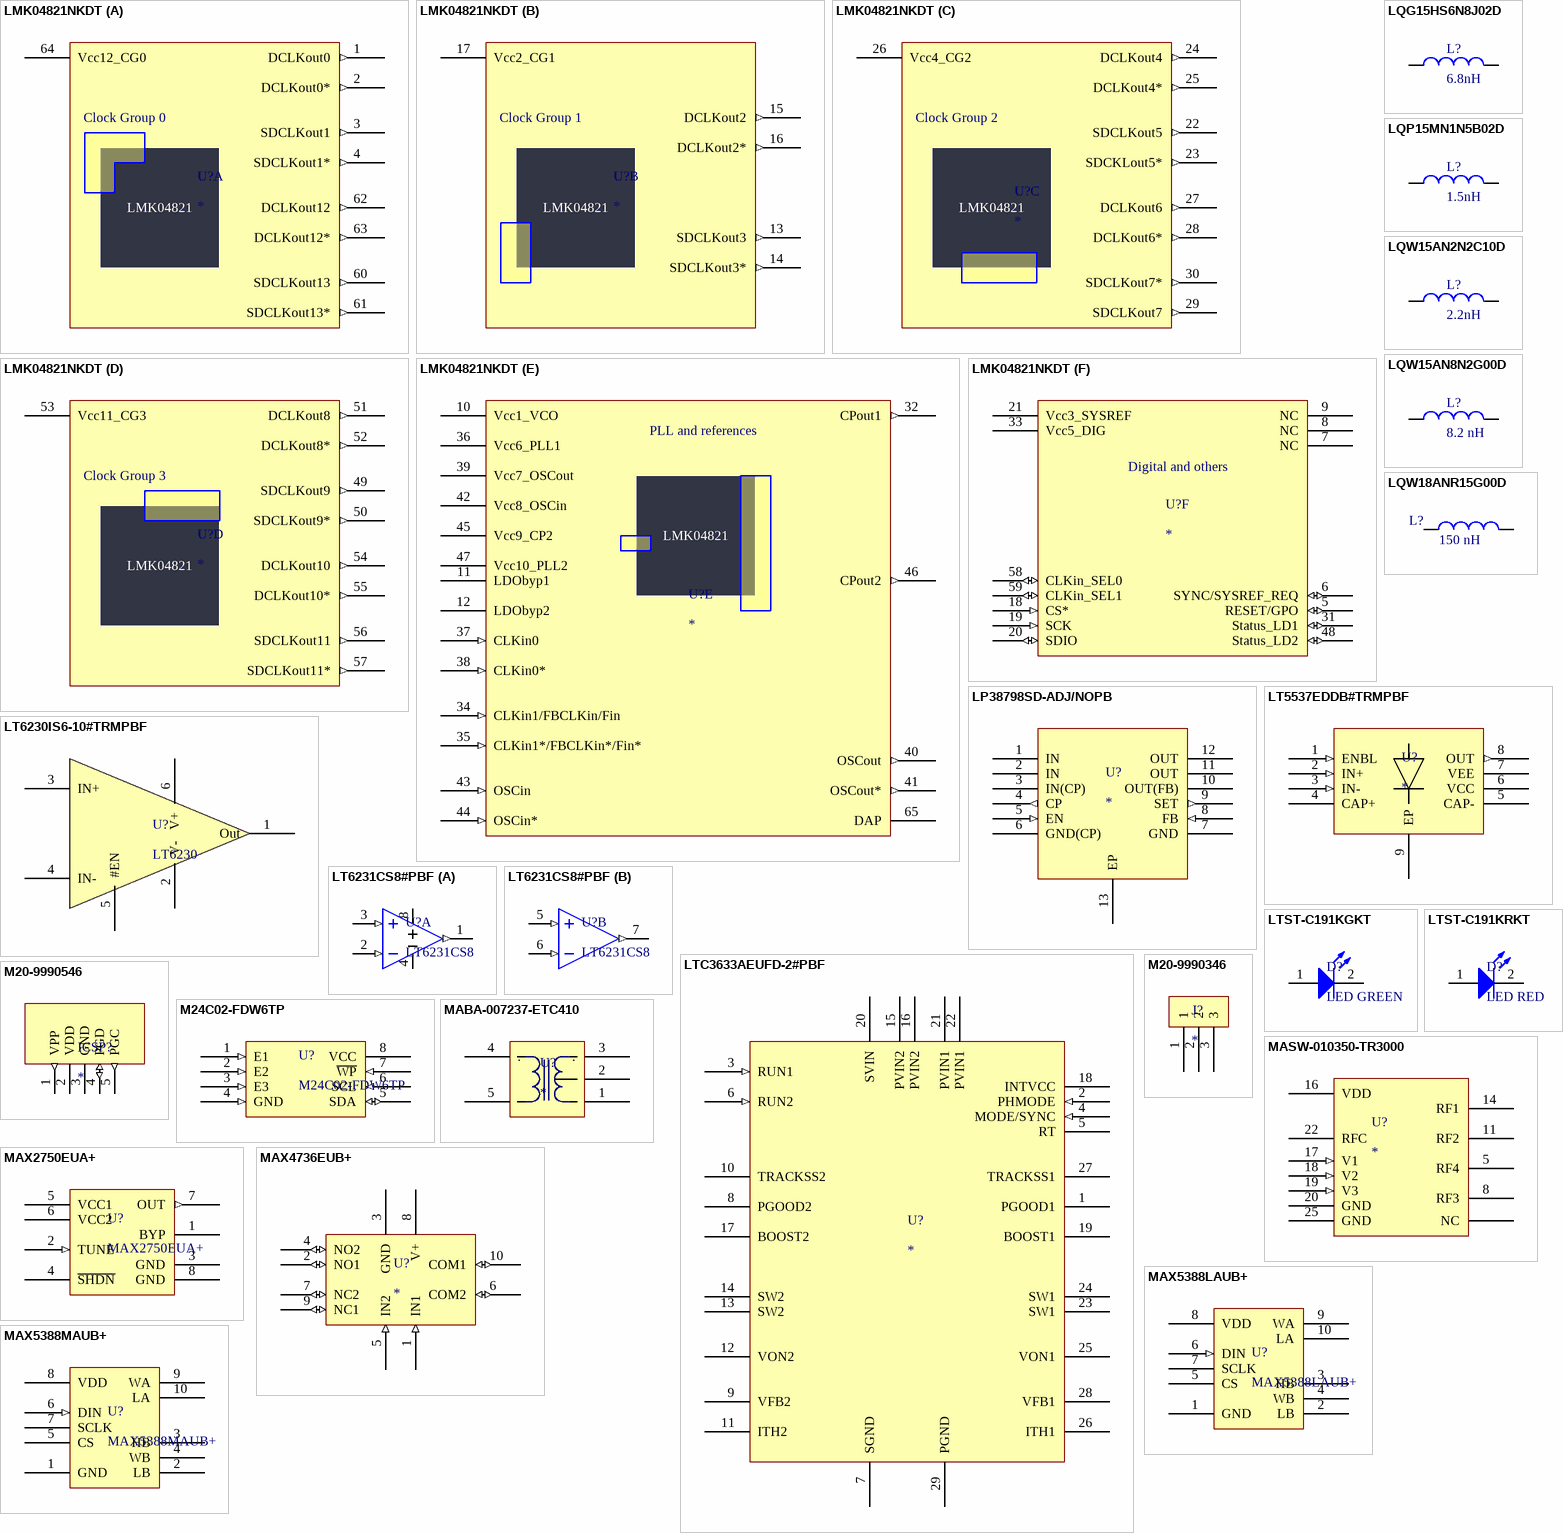
[diagram p7: symbols LMK04821NKDT to MAX5388MAUB+]

## LMK04821NKDT
designator U?
Clock Synthesizer/Jitter Cleaner Ultra Low Jitter Synth&Jitter Cleaner; Manufacturer: Texas Instruments; Manufacturer Part Number: LMK04821NKDT; Product Status: New Product; PLL: Yes; Input: LVCMOS, LVDS, LVPECL; Output: HSDS, LCPECL, LVCMOS, LVDS, LVPECL; Number of Circuits: 1; Ratio - Input:Output: 3:15; Differential - Input:Output: Yes/Yes; Frequency - Max: 1.54GHz; Divider/Multiplier: Yes/No; Voltage - Supply: 3.15 V ~ 3.45 V; Supplier 1: Mouser; Category: Clock Synthesizer/Jitter Cleaner; Stock 1: 0; Pricing 1: 1=20.69, 10=19.13, 25=17.58, 50=17.17, 100=16.34, 250=15.00, 500=14.27, 750=13.76 (EUR); Packaging: Reel; Series: LMK04821; Brand: Texas Instruments; Minimum Order Quantity: 1; Reeling: True; ComponentLink1URL: http://www.ti.com/lit/gpn/lmk04821; ComponentLink1Description: http://www.ti.com/lit/gpn/lmk04821; Supplier 2: Digi-Key; RoHS: RoHS Compliant; Stock 2: 840; Pricing 2: 1=21.01, 10=19.473, 25=17.842, 100=16.6188 (EUR); Type: Jitter Cleaner; Operating Temperature: -40°C ~ 85°C; Mounting Type: Surface Mount; Package / Case: 64-WFQFN Exposed Pad; Supplier Device Package: 64-WQFN (9x9); ComponentLink2URL: http://www.ti.com/lit/ds/symlink/lmk04821.pdf; ComponentLink2Description: http://www.ti.com/lit/ds/symlink/lmk04821.pdf; Supplier Part Number 1: 595-LMK04821NKDT; Supplier Part Number 2: 296-40277-1-ND
footprint QFN50P900X900X80_HS-65L TEXAS WQFN (QFN, 64-Leads, Body 9,00x9,00mm, Pitch 0,50mm, Thermal Pad 7,20x7,20mm, IPC High Density)
part A pins: 1 DCLKout0 (out), 2 DCLKout0* (out), 3 SDCLKout1 (out), 4 SDCLKout1* (out), 60 SDCLKout13 (out), 61 SDCLKout13* (out), 62 DCLKout12 (out), 63 DCLKout12* (out), 64 Vcc12_CG0 (power)
part B pins: 13 SDCLKout3 (out), 14 SDCLKout3* (out), 15 DCLKout2 (out), 16 DCLKout2* (out), 17 Vcc2_CG1 (power)
part C pins: 22 SDCLKout5 (out), 23 SDCKLout5* (out), 24 DCLKout4 (out), 25 DCLKout4* (out), 26 Vcc4_CG2 (power), 27 DCLKout6 (out), 28 DCLKout6* (out), 29 SDCLKout7 (out), 30 SDCLKout7* (out)
part D pins: 49 SDCLKout9 (out), 50 SDCLKout9* (out), 51 DCLKout8 (out), 52 DCLKout8* (out), 53 Vcc11_CG3 (power), 54 DCLKout10 (out), 55 DCLKout10* (out), 56 SDCLKout11 (out), 57 SDCLKout11* (out)
part E pins: 10 Vcc1_VCO (power), 11 LDObyp1, 12 LDObyp2, 32 CPout1 (out), 34 CLKin1/FBCLKin/Fin (in), 35 CLKin1*/FBCLKin*/Fin* (in), 36 Vcc6_PLL1 (power), 37 CLKin0 (in), 38 CLKin0* (in), 39 Vcc7_OSCout (power), 40 OSCout (out), 41 OSCout* (out), 42 Vcc8_OSCin (power), 43 OSCin (in), 44 OSCin* (in), 45 Vcc9_CP2 (power), 46 CPout2 (out), 47 Vcc10_PLL2 (power), 65 DAP (power)
part F pins: 5 RESET/GPO (io), 6 SYNC/SYSREF_REQ (io), 7 NC, 8 NC, 9 NC, 18 CS* (in), 19 SCK (in), 20 SDIO (io), 21 Vcc3_SYSREF (power), 31 Status_LD1 (io), 33 Vcc5_DIG (power), 48 Status_LD2 (io), 58 CLKin_SEL0 (io), 59 CLKin_SEL1 (io)
part A text: Clock Group 0
part B text: Clock Group 1
part C text: Clock Group 2
part D text: Clock Group 3
part E text: PLL and references
part F text: Digital and others

## LP38798SD-ADJ/NOPB
designator U?
IC REG LDO ADJ 0.8A 12WSON; Manufacturer: Texas Instruments; Manufacturer Part Number: LP38798SD-ADJ/NOPB; Input Voltage MAX: 20 V; Number of Outputs: 2 Output; Output Current: 800 mA; Output Type: Adjustable; Dropout Voltage - Max: 420 mV; PSRR / Ripple Rejection - Typ: 110 dB; Development Kit: LP38798EVM; Input Voltage MIN: 3 V; Line Regulation: 0.005 %; Load Regulation: - 0.2 %; Product Status: New Product; Regulator Topology: Positive Adjustable; Voltage - Output: 1.2 V ~ 19.8 V; Current - Output: 800mA; Voltage - Dropout (Typical): 0.2V @ 800mA; Number of Regulators: 1; Voltage - Input: 3 V ~ 20 V; Supplier 1: Mouser; Supplier Part Number 1: 595-LP38798SD-ADJNPB; RoHS: RoHS Compliant; Category: LDO Voltage Regulators; Stock 1: 1805; Pricing 1: 1=2.83, 10=2.53, 25=2.27, 50=2.17, 100=2.07, 250=1.87, 500=1.68, 750=1.51, 1000=1.35 (EUR); Package/Case: WSON-12; Packaging: Reel; Product: High PSRR Ultra Low Noise Linear Voltage Regulator; Series: LP38798; Type: High Performance Linear Regulator; Brand: Texas Instruments; Mounting Style: SMD/SMT; Maximum Operating Temperature: + 125 C; Minimum Operating Temperature: - 40 C; Standard Pack Qty: 1000; RoHS - Mouser: Y; Minimum Order Quantity: 1; Reeling: True; ComponentLink1URL: http://www.mouser.com/ds/2/405/lp38798-443447.pdf; ComponentLink1Description: http://www.mouser.com/ds/2/405/lp38798-443447.pdf; Supplier 2: Digi-Key; Supplier Part Number 2: 296-35855-1-ND; Stock 2: 311; Pricing 2: 1=2.97, 10=2.656, 25=2.3884, 100=2.1722, 250=1.96632, 500=1.7604, 750=1.59568, 1000=1.28684 (EUR); Current - Limit (Min): -; Operating Temperature: -40°C ~ 125°C; Mounting Type: Surface Mount; Package / Case: 12-WFDFN Exposed Pad; Supplier Device Package: 12-WSON (4x4); ComponentLink2URL: http://www.ti.com/lit/ds/symlink/lp38798.pdf; ComponentLink2Description: http://www.ti.com/lit/ds/symlink/lp38798.pdf
footprint DFN50P400X400X80_HS-13N (DFN, 12-Leads, Body 4,00x4,00mm, Pitch 0,50mm, Thermal Pad 3,00x2,60mm, IPC Medium Density)
pins: 1 IN (power) "Device unregulated input voltage pins. Connect pins together at the package.", 2 IN (power) "Device unregulated input voltage pins. Connect pins together at the package.", 3 IN(CP) (power) "Charge pump input", 4 CP (out) "Charge pump output", 5 EN (in) "Enable. Active high", 6 GND(CP) (power) "Charge pump ground", 7 GND (power) "Exposed pad (GND)", 8 FB (in) "Feedback input", 9 SET (out) "Feedback OUTPUT", 10 OUT(FB) (power) "Output buffer feedback", 11 OUT (power) "Output voltage", 12 OUT (power) "Output voltage", 13 EP (power) "Exposed pad (GND)"

## LQG15HS6N8J02D
designator L?, comment 6.8nH
FIXED IND 6.8NH 600MA 240 MOHM; Manufacturer: Murata Electronics North America; Manufacturer Part Number: LQG15HS6N8J02D; Type: Multilayer; Tolerance: ±5%; Shielding: Unshielded; DC Resistance (DCR): 240 mOhm Max; Q @ Freq: 8 @ 100MHz; Supplier 1: Digi-Key; RoHS: RoHS Compliant; Category: Inductors, Coils, Chokes; Stock 1: 201419; Pricing 1: 1=0.08, 10=0.051, 100=0.0335, 500=0.02792, 1000=0.02345, 2500=0.0201 (EUR); Packaging: Cut Tape (CT); Part Status: Active; Material - Core: -; Ratings: -; Operating Temperature: -55°C ~ 125°C; Mounting Type: Surface Mount; Package / Case: 0402 (1005 Metric); Supplier Device Package: 0402 (1005 Metric); Size / Dimension: 0.039" L x 0.020" W (1.00mm x 0.50mm); Height - Seated (Max): 0.022" (0.55mm); ComponentLink1URL: http://search.murata.co.jp/Ceramy/image/img/P02/JELF243B-0010.pdf; ComponentLink1Description: http://search.murata.co.jp/Ceramy/image/img/P02/JELF243B-0010.pdf; Supplier Part Number 1: 490-2621-1-ND
footprint INDC1005X06L (Chip Inductor, 2-Leads, Body 1,00x0,50mm, IPC High Density)
pins: 1, 2

## LQP15MN1N5B02D
designator L?, comment 1.5nH
FIXED IND 1.5NH 280MA 200 MOHM; Manufacturer: Murata Electronics North America; Manufacturer Part Number: LQP15MN1N5B02D; Type: Thin Film; Material - Core: Non-Magnetic; Tolerance: ±0.1nH; Shielding: Unshielded; DC Resistance (DCR): 200 mOhm Max; Q @ Freq: 13 @ 500MHz; Supplier 1: Digi-Key; RoHS: RoHS Compliant; Category: Inductors, Coils, Chokes; Stock 1: 20118; Pricing 1: 1=0.16, 10=0.144, 100=0.0956, 500=0.07964, 1000=0.06691, 2500=0.05735 (EUR); Packaging: Cut Tape (CT); Part Status: Active; Ratings: -; Operating Temperature: -40°C ~ 85°C; Mounting Type: Surface Mount; Package / Case: 0402 (1005 Metric); Supplier Device Package: 0402 (1005 Metric); Size / Dimension: 0.039" L x 0.020" W (1.00mm x 0.50mm); Height - Seated (Max): 0.018" (0.45mm); ComponentLink1URL: http://search.murata.co.jp/Ceramy/image/img/P02/JELF243C-0007.pdf; ComponentLink1Description: http://search.murata.co.jp/Ceramy/image/img/P02/JELF243C-0007.pdf; Supplier Part Number 1: 490-1126-1-ND
footprint INDC1005X06L (Chip Inductor, 2-Leads, Body 1,00x0,50mm, IPC High Density)
pins: 1, 2

## LQW15AN2N2C10D
designator L?, comment 2.2nH
FIXED IND 2.2NH 1A 27 MOHM SMD; Manufacturer: Murata Electronics North America; Manufacturer Part Number: LQW15AN2N2C10D; Type: Wirewound; Material - Core: Non-Magnetic; Tolerance: ±0.2nH; Shielding: Unshielded; DC Resistance (DCR): 27 mOhm Max; Q @ Freq: 25 @ 250MHz; Supplier 1: Digi-Key; RoHS: RoHS Compliant; Category: Inductors, Coils, Chokes; Stock 1: 98779; Pricing 1: 1=0.17, 10=0.154, 100=0.103, 500=0.08586, 1000=0.07212, 2500=0.06182 (EUR); Packaging: Cut Tape (CT); Part Status: Active; Ratings: -; Operating Temperature: -55°C ~ 125°C; Mounting Type: Surface Mount; Package / Case: 0402 (1005 Metric); Supplier Device Package: 0402 (1005 Metric); Size / Dimension: 0.039" L x 0.020" W (1.00mm x 0.50mm); Height - Seated (Max): 0.024" (0.60mm); ComponentLink1URL: http://search.murata.co.jp/Ceramy/image/img/P02/JELF243A-0051.pdf; ComponentLink1Description: http://search.murata.co.jp/Ceramy/image/img/P02/JELF243A-0051.pdf; Supplier Part Number 1: 490-6794-1-ND
footprint INDC1005X06L (Chip Inductor, 2-Leads, Body 1,00x0,50mm, IPC High Density)
pins: 1, 2

## LQW15AN8N2G00D
designator L?, comment 8.2 nH
FIXED IND 8.2NH 540MA 140 MOHM; Manufacturer: Murata Electronics North America; Manufacturer Part Number: LQW15AN8N2G00D; Type: Wirewound; Material - Core: Non-Magnetic; Tolerance: ±2%; Shielding: Unshielded; DC Resistance (DCR): 140 mOhm Max; Q @ Freq: 25 @ 250MHz; Frequency - Self Resonant: 5.5GHz; Frequency - Test: 100MHz; Supplier 1: Digi-Key; RoHS: RoHS Compliant; Category: Inductors, Coils, Chokes; Stock 1: 1727; Pricing 1: 1=0.17, 10=0.154, 25=0.1384, 50=0.1202, 100=0.1078, 250=0.10012, 500=0.09242, 750=0.08781, 1000=0.0801 (EUR); Packaging: Cut Tape (CT); Part Status: Active; Inductance: 8.2nH; Current Rating: 540mA; Current - Saturation: -; Ratings: -; Operating Temperature: -55°C ~ 125°C; Mounting Type: Surface Mount; Package / Case: 0402 (1005 Metric); Supplier Device Package: 0402 (1005 Metric); Size / Dimension: 0.039" L x 0.020" W (1.00mm x 0.50mm); Height - Seated (Max): 0.024" (0.60mm); ComponentLink1URL: http://search.murata.co.jp/Ceramy/image/img/PDF/ENG/L0075S0080LQW15A_00.pdf; ComponentLink1Description: http://search.murata.co.jp/Ceramy/image/img/PDF/ENG/L0075S0080LQW15A_00.pdf; Supplier Part Number 1: 490-6849-1-ND
footprint INDC1005X07L
pins: 1, 2

## LQW18ANR15G00D
designator L?, comment 150 nH
FIXED IND 150NH 160MA 1.5 OHM; Manufacturer: Murata Electronics North America; Manufacturer Part Number: LQW18ANR15G00D; Type: Wirewound; Material - Core: Non-Magnetic; Tolerance: ±2%; Shielding: Unshielded; DC Resistance (DCR): 1.5 Ohm Max; Q @ Freq: 32 @ 150MHz; Frequency - Self Resonant: 1.4GHz; Frequency - Test: 100MHz; Supplier 1: Digi-Key; RoHS: RoHS Compliant; Category: Inductors, Coils, Chokes; Stock 1: 11339; Pricing 1: 1=0.17, 10=0.158, 25=0.1424, 50=0.1236, 100=0.1109, 250=0.10292, 500=0.09502, 750=0.09027, 1000=0.08235 (EUR); Packaging: Cut Tape (CT); Part Status: Active; Inductance: 150nH; Current Rating: 160mA; Current - Saturation: -; Ratings: -; Operating Temperature: -55°C ~ 125°C; Mounting Type: Surface Mount; Package / Case: 0603 (1608 Metric); Supplier Device Package: 0603 (1608 Metric); Size / Dimension: 0.063" L x 0.031" W (1.60mm x 0.80mm); Height - Seated (Max): 0.039" (1.00mm); ComponentLink1URL: http://search.murata.co.jp/Ceramy/image/img/PDF/ENG/L0075S0080LQW18A_00.pdf; ComponentLink1Description: http://search.murata.co.jp/Ceramy/image/img/PDF/ENG/L0075S0080LQW18A_00.pdf; Supplier Part Number 1: 490-6923-1-ND
footprint INDC1608X10N MURATA LQW18A
pins: 1, 2

## LT5537EDDB#TRMPBF
designator U?
IC RF/IF LOG DETECTOR 8-DFN; Manufacturer: Linear Technology; Manufacturer Part Number: LT5537EDDB#TRMPBF; Frequency: 10MHz ~ 1GHz; RF Type: General Purpose; Input Range: -76dBm ~ 14dBm; Accuracy: ±1dB; Voltage - Supply: 2.7 V ~ 5.25 V; Current - Supply: 15mA; Supplier 1: Digi-Key; Supplier Part Number 1: LT5537EDDB#TRMPBFCT-ND; RoHS: RoHS Compliant; Category: RF/IF and RFID; Stock 1: 2797; Pricing 1: 1=6.48, 25=5.7844, 100=5.2057 (EUR); Packaging: Cut Tape (CT); Package / Case: 8-WFDFN Exposed Pad; ComponentLink1URL: http://www.linear.com/docs/8877; ComponentLink1Description: http://www.linear.com/docs/8877
footprint DFN50P300X200X80_HS-9N (DFN, 8-Leads, Body 3,00x2,00mm, Pitch 0,50mm, Thermal Pad 2,10x0,56mm, IPC Medium Density)
pins: 1 ENBL (in), 2 IN+ (in), 3 IN- (in), 4 CAP+, 5 CAP-, 6 VCC (power), 7 VEE (power), 8 OUT (out), 9 EP (power)

## LT6230IS6-10#TRMPBF
designator U?, comment LT6230
IC OPAMP GP 1.45GHZ RRO TSOT23-6; Manufacturer: Linear Technology; Manufacturer Part Number: LT6230IS6-10#TRMPBF; Amplifier Type: General Purpose; Number of Circuits: 1; Output Type: Rail-to-Rail; Slew Rate: 320 V/µs; Current - Supply: 3.3mA; Current - Output / Channel: 30mA; Voltage - Supply, Single/Dual (±): 3 V ~ 12.6 V, ±1.5 V ~ 6.3 V; Supplier 1: Digi-Key; RoHS: RoHS Compliant; Category: Integrated Circuits (ICs); Stock 1: 2390; Pricing 1: 1=3.79, 25=3.3856, 100=2.151, 250=1.97328 (EUR); Packaging: Digi-Reel®; Part Status: Active; -3db Bandwidth: -; Operating Temperature: -40°C ~ 85°C; Mounting Type: Surface Mount; Package / Case: SOT-23-6 Thin, TSOT-23-6; Supplier Device Package: TSOT-23-6; ComponentLink1URL: http://www.linear.com/docs/2098; ComponentLink1Description: http://www.linear.com/docs/2098; Supplier Part Number 1: LT6230IS6-10#TRMPBFDKR-ND
footprint TSOT-23-6 (SOT23, 6-Leads, Body 2,95x2,80mm, Pitch 0,95mm, IPC Medium Density)
pins: 1 Out, 2 V-, 3 IN+, 4 IN-, 5 #EN, 6 V+

## LT6231CS8#PBF
designator U?, comment LT6231CS8
IC OPAMP GP 215MHZ RRO 8SO; Manufacturer: Linear Technology; Manufacturer Part Number: LT6231CS8#PBF; Amplifier Type: General Purpose; Number of Circuits: 2; Output Type: Rail-to-Rail; Slew Rate: 70 V/µs; Current - Supply: 3.3mA; Current - Output / Channel: 30mA; Voltage - Supply, Single/Dual (±): 3 V ~ 12.6 V, ±1.5 V ~ 6.3 V; Supplier 1: Digi-Key; RoHS: RoHS Compliant; Category: Integrated Circuits (ICs); Stock 1: 611; Pricing 1: 1=3.64, 25=2.5904, 100=2.1323 (EUR); Packaging: Tube; Part Status: Active; -3db Bandwidth: -; Operating Temperature: 0°C ~ 70°C; Mounting Type: Surface Mount; Package / Case: 8-SOIC (0.154", 3.90mm Width); Supplier Device Package: 8-SO; ComponentLink1URL: http://www.linear.com/docs/2098; ComponentLink1Description: http://www.linear.com/docs/2098; Supplier Part Number 1: LT6231CS8#PBF-ND
footprint SOIC-8 (SOIC, 8-Leads, Body 4,90x3,90mm, Pitch 1,27mm, IPC Medium Density)
part A pins: 1 OUTA (out), 2 IN-A (in), 3 IN+A (in), 4 V- (power), 8 V+ (power)
part B pins: 5 IN+B (in), 6 IN-B (in), 7 OUTB (out)

## LTC3633AEUFD-2#PBF
designator U?
IC REG BUCK ADJ 3A DL 28QFN; Manufacturer: Linear Technology; Manufacturer Part Number: LTC3633AEUFD-2#PBF; Output Type: Adjustable; Number of Outputs: 2; Voltage - Output: 0.6 V ~ 6 V; Voltage - Input: 3.6 V ~ 20 V; Frequency - Switching: 500kHz ~ 4MHz; Synchronous Rectifier: Yes; Supplier 1: Digi-Key; Supplier Part Number 1: LTC3633AEUFD-2#PBF-ND; RoHS: RoHS Compliant; Category: Integrated Circuits (ICs); Stock 1: 264; Pricing 1: 1=8.42, 25=5.6348, 100=4.7899 (EUR); Packaging: Tube; Type: Step-Down (Buck); Current - Output: 3A; Operating Temperature: -40°C ~ 125°C; Mounting Type: Surface Mount; Package / Case: 28-WFQFN Exposed Pad; Supplier Device Package: 28-QFN (4x5); ComponentLink1URL: http://cds.linear.com/docs/en/datasheet/3633a23fa.pdf; ComponentLink1Description: http://cds.linear.com/docs/en/datasheet/3633a23fa.pdf
footprint QFN50P500X400X80_HS-29N (QFN, 28-Leads, Body 5,00x4,00mm, Pitch 0,50mm, Thermal Pad 3,50x2,50mm, IPC Medium Density)
pins: 1 PGOOD1 (oc), 2 PHMODE (in), 3 RUN1 (in), 4 MODE/SYNC (in), 5 RT, 6 RUN2 (in), 7 SGND (power), 8 PGOOD2 (oc), 9 VFB2, 10 TRACKSS2, 11 ITH2, 12 VON2, 13 SW2, 14 SW2, 15 PVIN2 (power), 16 PVIN2 (power), 17 BOOST2, 18 INTVCC (power), 19 BOOST1, 20 SVIN (power), 21 PVIN1 (power), 22 PVIN1 (power), 23 SW1, 24 SW1, 25 VON1, 26 ITH1, 27 TRACKSS1, 28 VFB1, 29 PGND (power)

## LTST-C191KGKT
designator D?, comment LED GREEN
LED GREEN CLEAR 0603 SMD; Manufacturer: Lite-On Inc.; Manufacturer Part Number: LTST-C191KGKT; Lens Color: Colorless; Millicandela Rating: 35mcd; Lens Style/Size: Rectangle with Flat Top, 1.10mm x 0.80mm; Voltage - Forward (Vf) (Typ): 2V; Current - Test: 20mA; Viewing Angle: 130°; Wavelength - Dominant: 571nm; Wavelength - Peak: 574nm; Supplier 1: Digi-Key; RoHS: RoHS Compliant; Category: Optoelectronics; Stock 1: 1105619; Pricing 1: 1=0.27, 10=0.197, 25=0.1456, 100=0.1039, 250=0.07068, 500=0.06234, 1000=0.04884, 2500=0.0478 (EUR); Packaging: Digi-Reel®; Part Status: Active; Color: Green; Lens Transparency: Clear; Mounting Type: Surface Mount; Features: -; Package / Case: 0603 (1608 Metric); Size / Dimension: 1.60mm L x 0.80mm W; Height (Max): 0.55mm; ComponentLink1URL: http://optoelectronics.liteon.com/upload/download/DS22-2000-228/S_110_LTST-C191KGKT.pdf; ComponentLink1Description: http://optoelectronics.liteon.com/upload/download/DS22-2000-228/S_110_LTST-C191KGKT.pdf; Supplier Part Number 1: 160-1446-6-ND
footprint 0603 LED (LED, Body 1.6x0.8mm, IPC High Density)
pins: 1 A, 2 C

## LTST-C191KRKT
designator D?, comment LED RED
LED RED CLEAR 0603 SMD; Manufacturer: Lite-On Inc.; Manufacturer Part Number: LTST-C191KRKT; Lens Color: Colorless; Millicandela Rating: 54mcd; Lens Style/Size: Rectangle with Flat Top, 1.10mm x 0.80mm; Voltage - Forward (Vf) (Typ): 2V; Current - Test: 20mA; Viewing Angle: 130°; Wavelength - Dominant: 631nm; Wavelength - Peak: 639nm; Supplier 1: Digi-Key; RoHS: RoHS Compliant; Category: Optoelectronics; Stock 1: 517799; Pricing 1: 1=0.27, 10=0.197, 25=0.1456, 100=0.1039, 250=0.07068, 500=0.06234, 1000=0.04884, 2500=0.0478 (EUR); Packaging: Digi-Reel®; Part Status: Active; Color: Red; Lens Transparency: Clear; Mounting Type: Surface Mount; Features: -; Package / Case: 0603 (1608 Metric); Size / Dimension: 1.60mm L x 0.80mm W; Height (Max): 0.65mm; ComponentLink1URL: http://optoelectronics.liteon.com/upload/download/DS22-2000-223/S_110_LTST-C191KRKT.pdf; ComponentLink1Description: http://optoelectronics.liteon.com/upload/download/DS22-2000-223/S_110_LTST-C191KRKT.pdf; Supplier Part Number 1: 160-1447-6-ND
footprint 0603 LED (LED, Body 1.6x0.8mm, IPC High Density)
pins: 1 A, 2 C

## M20-9990346
designator J?
SIL VERTICAL PC TAIL PIN HEADER; Manufacturer: Harwin Inc; Manufacturer Part Number: M20-9990346; Connector Type: Header, Unshrouded, Breakaway; Number of Positions: 3; Number of Positions Loaded: All; Pitch: 0.100" (2.54mm); Brand: Harwin; Supplier 1: Digi-Key; Supplier Part Number 1: 952-2264-ND; RoHS: RoHS Compliant; Category: Connectors, Interconnects; Stock 1: 22462; Pricing 1: 1=0.12, 10=0.116, 25=0.0864, 50=0.074, 100=0.0714, 250=0.0616, 500=0.05912, 1000=0.05174, 2500=0.04681 (EUR); Packaging: Bulk; Contact Type: Male Pin; Number of Rows: 1; Row Spacing: -; Contact Mating Length: 0.240" (6.10mm); Mounting Type: Through Hole; Termination: Solder; Fastening Type: -; Features: -; Contact Finish: Tin; Contact Finish Thickness: -; Color: Black; ComponentLink1URL: http://harwin.com/includes/pdfs/M20-999.pdf; ComponentLink1Description: http://harwin.com/includes/pdfs/M20-999.pdf; Supplier 2: Mouser; Supplier Part Number 2: 855-M20-9990346; Stock 2: 8889; Pricing 2: 1=0.121, 10=0.073, 100=0.058, 1000=0.051, 2000=0.040, 10000=0.039 (EUR); Contact Plating: Tin; Mounting Angle: Vertical; Series: M20; Termination Style: Through Hole; Type: Pin Strip; Mounting Style: -; Product Category: 2.54mm M20 PC Tail Connectors; Product Type: Headers; Standard Pack Qty: 1000; RoHS - Mouser: Y; Minimum Order Quantity: 1; Reeling: False; ComponentLink2URL: http://www.mouser.com/ds/2/181/M20-999-351179.pdf; ComponentLink2Description: http://www.mouser.com/ds/2/181/M20-999-351179.pdf
footprint SIP3 (3-PIN HEADER)
pins: 1, 2, 3

## M20-9990546
designator ICSP?
Headers & Wire Housings 05 SIL VERTICAL PIN HEADER TIN; Manufacturer: Harwin; Manufacturer Part Number: M20-9990346; Number of Positions: 3; Pitch: 2.54 mm; Connector Type: Header, Unshrouded, Breakaway; Number of Positions Loaded: All; Supplier 1: Mouser; Supplier Part Number 1: 855-M20-9990346; RoHS: RoHS Compliant; Category: Headers & Wire Housings; Stock 1: 8889; Pricing 1: 1=0.121, 10=0.073, 100=0.058, 1000=0.051, 2000=0.040, 10000=0.039 (EUR); Contact Plating: Tin; Mounting Angle: Vertical; Number of Rows: 1; Series: M20; Termination Style: Through Hole; Type: Pin Strip; Brand: Harwin; Mounting Style: -; Product Category: 2.54mm M20 PC Tail Connectors; Product Type: Headers; Standard Pack Qty: 1000; RoHS - Mouser: Y; Minimum Order Quantity: 1; Reeling: False; ComponentLink1URL: http://www.mouser.com/ds/2/181/M20-999-351179.pdf; ComponentLink1Description: http://www.mouser.com/ds/2/181/M20-999-351179.pdf; Supplier 2: Digi-Key; Supplier Part Number 2: 952-2264-ND; Stock 2: 22462; Pricing 2: 1=0.12, 10=0.116, 25=0.0864, 50=0.074, 100=0.0714, 250=0.0616, 500=0.05912, 1000=0.05174, 2500=0.04681 (EUR); Packaging: Bulk; Contact Type: Male Pin; Row Spacing: -; Contact Mating Length: 0.240" (6.10mm); Mounting Type: Through Hole; Termination: Solder; Fastening Type: -; Features: -; Contact Finish: Tin; Contact Finish Thickness: -; Color: Black; ComponentLink2URL: http://harwin.com/includes/pdfs/M20-999.pdf; ComponentLink2Description: http://harwin.com/includes/pdfs/M20-999.pdf; Supplier 3: Mouser; Supplier Part Number 3: 855-M20-9990546; Stock 3: 0; Pricing 3: 1=0.156, 10=0.112, 100=0.092, 500=0.087, 1000=0.072, 2000=0.066 (EUR); Supplier 4: Digi-Key; Supplier Part Number 4: 952-2268-ND; Stock 4: 0; Pricing 4: 1=0.16, 10=0.152, 25=0.1296, 50=0.1134, 100=0.1052, 250=0.09308, 500=0.08904, 1000=0.07285, 2500=0.06678 (EUR)
footprint SIP5
pins: 1 VPP (out), 2 VDD (power), 3 GND, 4 PGD (io), 5 PGC (out)

## M24C02-FDW6TP
designator U?
IC EEPROM 2KBIT 400KHZ 8TSSOP; Manufacturer: STMicroelectronics; Format - Memory: EEPROMs - Serial; Memory Size: 2K (256 x 8); Interface: I²C, 2-Wire Serial; Voltage - Supply: 1.7 V ~ 5.5 V; Unidirectional Channels: 2; Voltage - Reverse Standoff (Typ): 5.25V; Voltage - Breakdown (Min): 6V; Voltage - Clamping (Max) @ Ipp: 17V; Current - Peak Pulse (10/1000µs): 5A (8/20µs); Power Line Protection: Yes; Supplier 1: Digi-Key; Manufacturer Part Number: M24C02-FDW6TP; RoHS: RoHS Compliant; Category: Integrated Circuits (ICs); Stock 1: 2262; Pricing 1: 1=0.12, 10=0.121, 100=0.0997, 500=0.09692, 1000=0.09433 (EUR); Packaging: Cut Tape (CT); Part Status: Active; Memory Type: EEPROM; Speed: 400kHz; Operating Temperature: -40°C ~ 85°C (TA); Package / Case: 8-TSSOP (0.173", 4.40mm Width); Supplier Device Package: 8-TSSOP; ComponentLink1URL: http://www.st.com/content/ccc/resource/technical/document/datasheet/b0/d8/50/40/5a/85/49/6f/DM00071904.pdf/files/DM00071904.pdf/jcr:content/translations/en.DM00071904.pdf; ComponentLink1Description: http://www.st.com/content/ccc/resource/technical/document/datasheet/b0/d8/50/40/5a/85/49/6f/DM00071904.pdf/files/DM00071904.pdf/jcr:content/translations/en.DM00071904.pdf; Supplier Part Number 1: 497-15746-1-ND; Type: Steering (Rail to Rail); Bidirectional Channels: -; Power - Peak Pulse: -; Applications: Ethernet; Capacitance @ Frequency: -; Mounting Type: Surface Mount; ComponentLink2URL: http://www.st.com/content/ccc/resource/technical/document/datasheet/06/1d/48/9c/6c/20/4a/b2/CD00050750.pdf/files/CD00050750.pdf/jcr:content/translations/en.CD00050750.pdf; ComponentLink2Description: http://www.st.com/content/ccc/resource/technical/document/datasheet/06/1d/48/9c/6c/20/4a/b2/CD00050750.pdf/files/CD00050750.pdf/jcr:content/translations/en.CD00050750.pdf
footprint TSOP65P640X120-8N
pins: 1 E1 (in), 2 E2 (in), 3 E3 (in), 4 GND (in), 5 SDA (io), 6 SCL (in), 7 ~{WP} (in), 8 VCC (power)

## MABA-007237-ETC410
designator U?
Transformers Audio & Signal 1.0-350MHz IL 3dB Impedance Ratio 1:4; Manufacturer: MACOM; Manufacturer Part Number: MABA-007237-ETC410; Frequency Range: 1 MHz to 350 MHz; Power Rating: 250 mW; Supplier 1: Mouser; Supplier Part Number 1: 937-MABA007237ETC410; RoHS: RoHS Compliant; Category: Transformers Audio & Signal; Stock 1: 1230; Pricing 1: 1=2.15, 10=1.74, 100=1.38, 500=1.21, 1000=1.07, 2000=0.908, 4000=0.874, 10000=0.843 (EUR); Dimensions: 3.81 mm L x 3.81 mm W x 2.67 mm H; Height: 2.67 mm; Length: 3.81 mm; Operating Temperature Range: - 40 C to + 85 C; Package/Case: SM-22; Packaging: Reel; Product: Line Transformers; Series: MABA; Termination Style: SMD/SMT; Width: 3.81 mm; Brand: MACOM; Product Type: Transformers; Standard Pack Qty: 2000; RoHS - Mouser: Y; Minimum Order Quantity: 1; Reeling: True; ComponentLink1URL: http://www.mouser.com/ds/2/249/MABA-007237-ETC410-318082.pdf; ComponentLink1Description: http://www.mouser.com/ds/2/249/MABA-007237-ETC410-318082.pdf
footprint SM-22 (MACOM SM-22, 5-Leads, Body 3,81x3,81mm, Pitch 1,27mm, IPC Medium Density)
pins: 1, 2, 3 ., 4 ., 5